# EAGLE library part I2C-RTC-EEPROM (library i2c-rtc-eeprom)
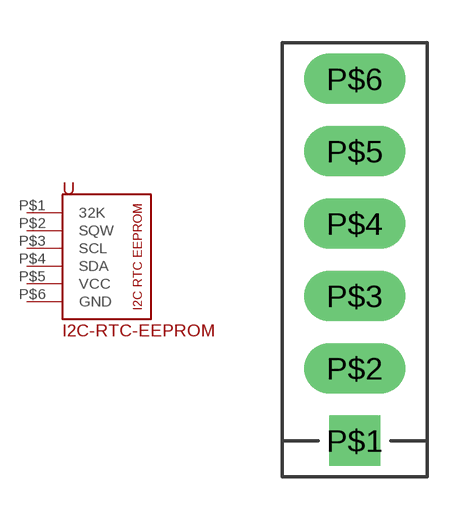
[diagram p0: symbol with the pads of I2C-RTC-EEPROM; footprint I2C-RTC-EEPROM]

Designator prefix -

## I2C-RTC-EEPROM  [I2C-RTC-EEPROM]
P$1  32K
P$2  SQW
P$3  SCL
P$4  SDA
P$5  VCC  pwr
P$6  GND  pwr

## Footprint I2C-RTC-EEPROM (pad centres in mm)
drill 0.8 pad 1.778 square: P$1 0,-6.35
drill 0.8 pad 1.778 long: P$2 0,-3.81; P$3 0,-1.27; P$4 0,1.27; P$5 0,3.81; P$6 0,6.35